# EAGLE library part MAKITA (library con-makita)
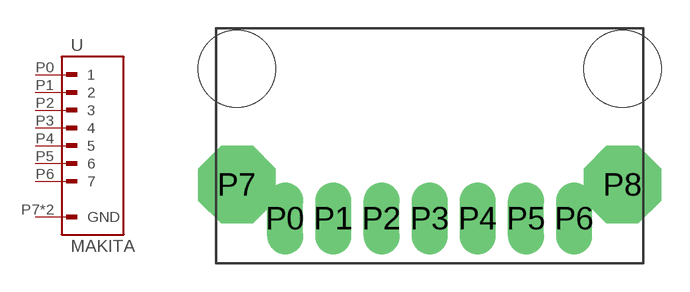
[diagram p0: symbol with the pads of MAKITA; footprint MAKITA]

Designator prefix -

## MAKITA  [MAKITA]
P0  1  pas
P1  2  pas
P2  3  pas
P3  4  pas
P4  5  pas
P5  6  pas
P6  7  pas
P7  GND  pas
P8  GND  pas

## Footprint MAKITA (pad centres in mm)
drill 1.27 long: P0 0,0; P1 2.54,0; P2 5.08,0; P3 7.62,0; P4 10.16,0; P5 12.7,0; P6 15.24,0
drill 3.048 octagon: P7 -2.54,1.778; P8 17.78,1.778
hole 4.064 at -2.54,7.874
hole 4.064 at 17.78,7.874